# EAGLE library part TPS40055 (library tps40055)
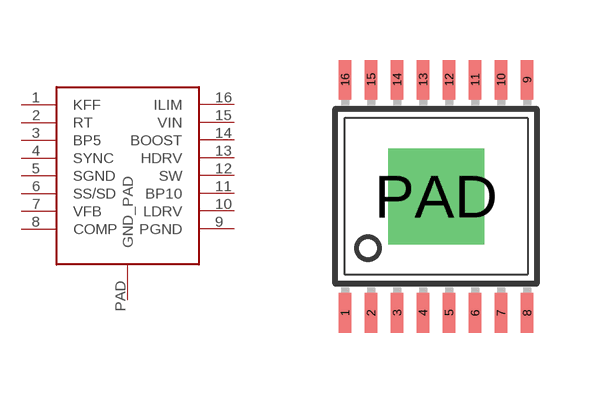
[diagram p0: symbol with the pads of TSSOP16; footprint TSSOP16]

Designator prefix -

## TPS40055  [TSSOP16]
1  KFF
2  RT
3  BP5
4  SYNC
5  SGND
6  SS/SD
7  VFB
8  COMP
9  PGND
10  LDRV
11  BP10
12  SW
13  HDRV
14  BOOST
15  VIN
16  ILIM
PAD  GND_PAD

## Footprint TSSOP16 (pad centres in mm)
Thin Shrink Small Outline Plastic 16 MAX3223-MAX3243.pdf
smd 0.305 x 0.991: 1 -2.275,-2.918; 2 -1.625,-2.918; 3 -0.975,-2.918; 4 -0.325,-2.918; 5 0.325,-2.918; 6 0.975,-2.918; 7 1.625,-2.918; 8 2.275,-2.918; 9 2.275,2.918; 10 1.625,2.918; 11 0.975,2.918; 12 0.325,2.918; 13 -0.325,2.918; 14 -0.975,2.918; 15 -1.625,2.918; 16 -2.275,2.918
drill 1.6 square: PAD 0,0